# Altium footprint library pcblibLS.PcbLib: 49 footprints (part 3 of 4)
Each footprint in its own frame and in the unit in brackets; x right, y up, seen from the top. Pads: shape width x height; smd on the part's side, far side on the other; paste and mask are expansions set on the pad; w line width, h text height; cw(c..) or ccw(c..) is an arc to the next point about the centre after c.
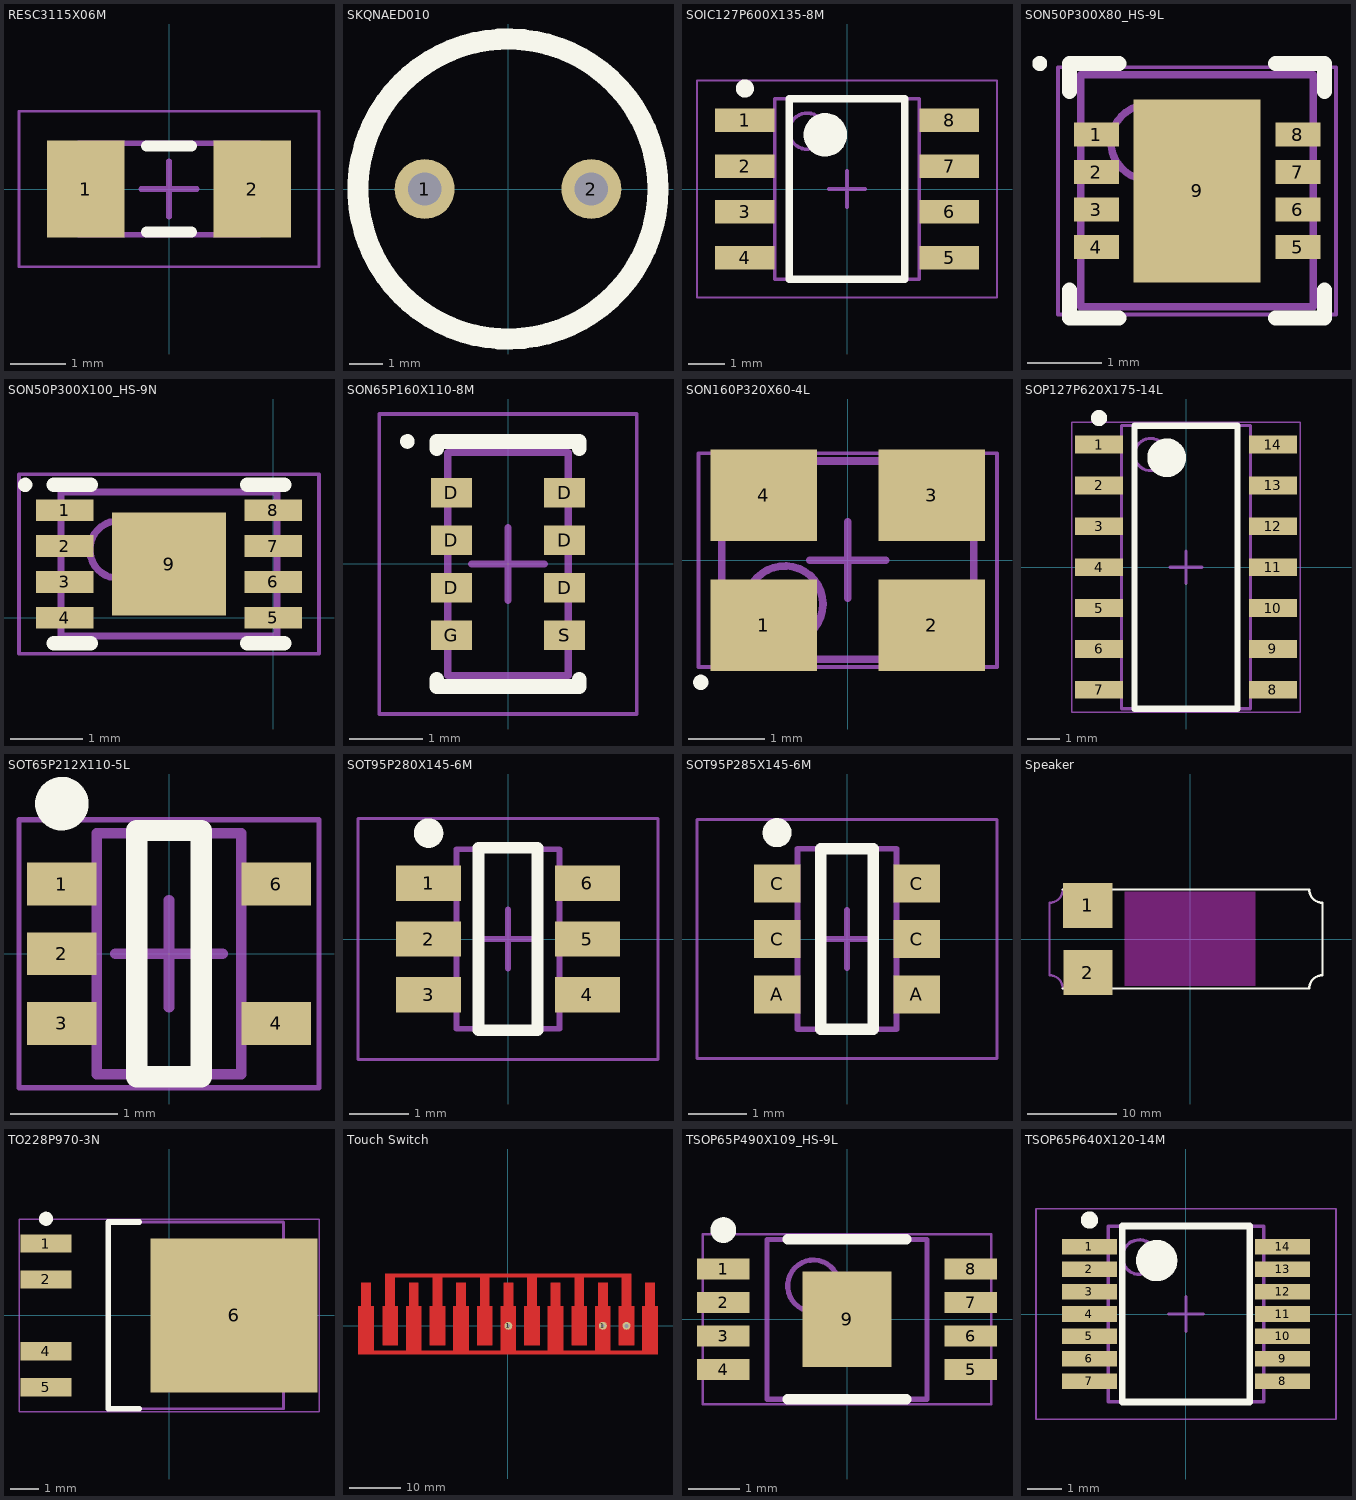
[diagram p2: the footprints below, top view; thin cyan lines are the x and y axes]

## RESC3115X06M [mm] "Chip Resistor, 2-Leads, Body 3.13x1.55mm, IPC Low Density"
height 0.6
pads (2):
  rect 1.4x1.75 smd: 1(-1.5,0) 2(1.5,0)
Top Overlay:
  lines w0.2: -0.4,-0.775 0.4,-0.775 ; -0.4,0.775 0.4,0.775
Mechanical 13:
  lines w0.1: -1.625,-0.825 -1.625,0.825 1.625,0.825 1.625,-0.825 -1.625,-0.825
Mechanical 15:
  lines w0.05: -2.7,-1.4 -2.7,1.4 2.7,1.4 2.7,-1.4 -2.7,-1.4
  lines w0.1: -0.5,0 0.5,0 ; 0,-0.5 0,0.5
3D body: height 0.6, standoff 0, extent -1.125,-0.825 1.125,0.825
3D body: height 0.6, standoff 0, extent -1.625,-0.825 -1.125,0.825
3D body: height 0.6, standoff 0, extent 1.125,-0.825 1.625,0.825

## SKQNAED010 [mm] "Tactile Switch"
height 3.4
pads (2):
  round 1.8 hole 1: 1(-2.5,0) 2(2.5,0)
Top Overlay:
  circle w0.635: c0,0 r4.5

## SOIC127P600X135-8M [mm] "SOIC, 8-Leads, Body 4.90x3.85mm, Pitch 1.27mm, IPC Low Density"
height 1.35
pads (8):
  rect 1.65x0.65 smd: 1(-2.825,1.905) 2(-2.825,0.635) 3(-2.825,-0.635) 4(-2.825,-1.905) 5(2.825,-1.905) 6(2.825,-0.635) 7(2.825,0.635) 8(2.825,1.905)
Top Overlay:
  circle w0.6: c-0.6,1.5 r0.3
  circle w0.25: c-2.825,2.78 r0.125
  lines w0.2: -1.6,-2.5 1.6,-2.5 1.6,2.5 -1.6,2.5 -1.6,-2.5
Mechanical 13:
  circle w0.1: c-1.1,1.6 r0.5
  lines w0.1: -2,-2.5 2,-2.5 2,2.5 -2,2.5 -2,-2.5
Mechanical 15:
  lines w0.05: -4.15,-3 4.15,-3 4.15,3 -4.15,3 -4.15,-3
  lines w0.1: -0.5,0 0.5,0 ; 0,-0.5 0,0.5
3D body: height 1.75, standoff 1.35, extent -2,-2.5 2,2.5

## SON50P300X80_HS-9L [mm] "ADM7172 - SON, 8-Leads, Body 3.00x3.00mm, Pitch 0.50mm, Thermal Pad 2.44x1.49mm, IPC High Density"
height 0.8
pads (9):
  rect 0.6x0.32 smd: 1(-16.14,9) 2(-16.14,8.5) 3(-16.14,8) 4(-16.14,7.5) 5(-13.45,7.5) 6(-13.45,8) 7(-13.45,8.5) 8(-13.45,9)
  rect 1.7x2.44 smd paste-0.745: 9(-14.795,8.25)
Top Overlay:
  circle w0.1: c-16.895,9.95 r0.05
  lines w0.2: -16.495,6.925 -16.495,6.55 -15.84,6.55 ; -16.495,9.575 -16.495,9.95 -15.84,9.95 ; -13.75,6.55 -13.095,6.55 -13.095,6.925 ; -13.75,9.95 -13.095,9.95 -13.095,9.575
Top Paste:
  rectangle: -14.745,7.05 -14.045,8.2
  rectangle: -14.745,8.3 -14.045,9.45
  rectangle: -15.545,7.05 -14.845,8.2
  rectangle: -15.545,8.3 -14.845,9.45
Mechanical 13:
  circle w0.1: c-15.445,8.9 r0.5
  lines w0.1: -16.345,6.7 -13.245,6.7 -13.245,9.8 -16.345,9.8 -16.345,6.7
Mechanical 15:
  lines w0.05: -16.65,6.6 -12.94,6.6 -12.94,9.9 -16.65,9.9 -16.65,6.6
  lines w0.1: -15.295,8.25 -14.295,8.25 ; -14.795,7.75 -14.795,8.75
3D body: height 0.8, standoff 0.2, extent -16.345,6.7 -13.245,9.8

## SON50P300X100_HS-9N [mm] "DAC - SON, 8-Leads, Body 2.00x3.00mm, Pitch 0.50mm, Thermal Pad 1.43x1.58mm, IPC Medium Density"
height 1
pads (9):
  rect 0.8x0.3 smd: 1(-2.9,1.5) 2(-2.9,1) 3(-2.9,0.5) 4(-2.9,0) 5(0,0) 6(0,0.5) 7(0,1) 8(0,1.5)
  rect 1.58x1.43 smd: 9(-1.45,0.75)
Top Overlay:
  circle w0.1: c-3.45,1.85 r0.05
  lines w0.2: -3.05,-0.35 -2.54,-0.35 ; -3.05,1.85 -2.54,1.85 ; -0.36,-0.35 0.15,-0.35 ; -0.36,1.85 0.15,1.85
Mechanical 13:
  circle w0.1: c-2.15,0.95 r0.4
  lines w0.1: -2.95,-0.25 0.05,-0.25 0.05,1.75 -2.95,1.75 -2.95,-0.25
Mechanical 15:
  lines w0.05: -3.535,-0.5 0.635,-0.5 0.635,2 -3.535,2 -3.535,-0.5
  lines w0.1: -1.95,0.75 -0.95,0.75 ; -1.45,0.25 -1.45,1.25
3D body: height 1, standoff 0, extent -2.95,-0.25 0.05,1.75

## SON65P160X110-8M [mm] "ChipFET - SON, 8-Leads, Body 3.05x1.65mm, Pitch 0.65mm, IPC Low Density"
height 1.1
pads (8):
  rect 0.56x0.4 smd: D(-0.775,-0.325) D(-0.775,0.325) D(-0.775,0.975) D(0.775,-0.325) D(0.775,0.325) D(0.775,0.975) G(-0.775,-0.975) S(0.775,-0.975)
Top Overlay:
  circle w0.1: c-1.375,1.675 r0.05
  lines w0.2: -0.975,-1.575 -0.975,-1.675 0.975,-1.675 0.975,-1.575 ; -0.975,1.575 -0.975,1.675 0.975,1.675 0.975,1.575
Mechanical 13:
  lines w0.1: -0.825,-1.525 -0.825,1.525 0.825,1.525 0.825,-1.525 -0.825,-1.525
Mechanical 15:
  lines w0.05: -1.76,-2.05 -1.76,2.05 1.76,2.05 1.76,-2.05 -1.76,-2.05
  lines w0.1: -0.5,0 0.5,0 ; 0,-0.5 0,0.5
3D body: height 1.1, standoff 0, extent -0.825,-1.525 0.825,1.525

## SON160P320X60-4L [mm] "NX3225 Crystal"
height 0.6
pads (4):
  rect 1.4x1.2 smd mask+0: 1(-1.1,-0.85) 2(1.1,-0.85) 3(1.1,0.85) 4(-1.1,0.85)
Top Overlay:
  circle w0.1: c-1.925,-1.6 r0.05
Mechanical 13:
  circle w0.1: c-0.825,-0.575 r0.5
  lines w0.1: -1.65,-1.3 -1.65,1.3 1.65,1.3 1.65,-1.3 -1.65,-1.3
Mechanical 15:
  lines w0.05: -1.955,-1.4 -1.955,1.4 1.955,1.4 1.955,-1.4 -1.955,-1.4
  lines w0.1: -0.5,0 0.5,0 ; 0,-0.5 0,0.5
3D body: height 0.6, standoff 0, extent -1.65,-1.3 1.65,1.3

## SOP127P620X175-14L [mm] "Buffer - SOP, 14-Leads, Body 8.65x3.90mm, Pitch 1.27mm, IPC High Density"
height 1.75
pads (14):
  rect 1.5x0.55 smd: 1(-2.7,3.81) 2(-2.7,2.54) 3(-2.7,1.27) 4(-2.7,0) 5(-2.7,-1.27) 6(-2.7,-2.54) 7(-2.7,-3.81) 8(2.7,-3.81) 9(2.7,-2.54) 10(2.7,-1.27) 11(2.7,0) 12(2.7,1.27) 13(2.7,2.54) 14(2.7,3.81)
Top Overlay:
  circle w0.25: c-2.7,4.635 r0.125
  circle w0.6: c-0.6,3.4 r0.3
  lines w0.2: -1.6,-4.4 -1.6,4.4 1.6,4.4 1.6,-4.4 -1.6,-4.4
Mechanical 13:
  circle w0.1: c-1.1,3.5 r0.5
  lines w0.1: -2,-4.4 -2,4.4 2,4.4 2,-4.4 -2,-4.4
Mechanical 15:
  lines w0.05: -3.55,-4.5 -3.55,4.5 3.55,4.5 3.55,-4.5 -3.55,-4.5
  lines w0.1: -0.5,0 0.5,0 ; 0,-0.5 0,0.5
3D body: height 1.75, standoff 0.1, extent -2,-4.4 2,4.4

## SOT65P212X110-5L [mm] "1SPST Switch SOT23, 5-Leads, Body 2.05x2.13mm, Pitch 0.65mm, IPC High Density"
height 1.1
pads (5):
  rect 0.65x0.4 smd: 1(-1,0.65) 2(-1,0) 3(-1,-0.65) 4(1,-0.65) 6(1,0.65)
Top Overlay:
  circle w0.25: c-1,1.4 r0.125
  lines w0.2: -0.3,-1.15 0.3,-1.15 0.3,1.15 -0.3,1.15 -0.3,-1.15
Mechanical 13:
  lines w0.1: -0.675,-1.125 -0.675,1.125 0.675,1.125 0.675,-1.125 -0.675,-1.125
Mechanical 15:
  lines w0.05: -1.4,-1.25 -1.4,1.25 1.4,1.25 1.4,-1.25 -1.4,-1.25
  lines w0.1: -0.5,0 0.5,0 ; 0,-0.5 0,0.5
3D body: height 1.1, standoff 0, extent -0.675,-1.125 0.675,1.125

## SOT95P280X145-6M [mm] "SOT23, 6-Leads, Body 2.90x2.80mm, Pitch 0.95mm, IPC Low Density"
height 1.45
pads (6):
  rect 1.1x0.6 smd: 1(-1.35,0.95) 2(-1.35,0) 3(-1.35,-0.95) 4(1.35,-0.95) 5(1.35,0) 6(1.35,0.95)
Top Overlay:
  circle w0.25: c-1.35,1.8 r0.125
  lines w0.2: -0.5,-1.55 -0.5,1.55 0.5,1.55 0.5,-1.55 -0.5,-1.55
Mechanical 13:
  lines w0.1: -0.875,-1.525 0.875,-1.525 0.875,1.525 -0.875,1.525 -0.875,-1.525
Mechanical 15:
  lines w0.05: -2.55,-2.05 2.55,-2.05 2.55,2.05 -2.55,2.05 -2.55,-2.05
  lines w0.1: -0.5,0 0.5,0 ; 0,-0.5 0,0.5
3D body: height 1.45, standoff 0, extent -0.875,-1.525 0.875,1.525

## SOT95P285X145-6M [mm] "ZHCS2000 - SOT23, 6-Leads, Body 3.00x2.85mm, Pitch 0.95mm, IPC Low Density"
height 1.45
pads (6):
  rect 0.8x0.65 smd: A(-1.2,-0.95) A(1.2,-0.95) C(-1.2,0) C(-1.2,0.95) C(1.2,0) C(1.2,0.95)
Top Overlay:
  circle w0.25: c-1.2,1.825 r0.125
  lines w0.2: -0.45,-1.55 0.45,-1.55 0.45,1.55 -0.45,1.55 -0.45,-1.55
Mechanical 13:
  lines w0.1: -0.85,-1.55 -0.85,1.55 0.85,1.55 0.85,-1.55 -0.85,-1.55
Mechanical 15:
  lines w0.05: -2.575,-2.05 -2.575,2.05 2.575,2.05 2.575,-2.05 -2.575,-2.05
  lines w0.1: -0.5,0 0.5,0 ; 0,-0.5 0,0.5
3D body: height 1.45, standoff 0.02, extent -0.85,-1.55 0.85,1.55

## Speaker [mil] "The speaker on old dev board"
height 196.85
pads (2):
  rect 216.54x200 smd: 1(-453,148) 2(-452,-148)
Top Overlay:
  lines w10: -562.99,-218.5 523.62,-218.5 cw(c582.68,-218.5) 582.68,-159.45 582.68,159.45 cw(c582.68,218.5) 523.62,218.5 -562.99,218.5
Keep-Out Layer:
  board cut-out: -290,-207 286,-207 286,209 -290,209
  lines w15.75: -282.48,-199.8 278.54,-199.8 278.54,201.2 -282.48,201.2 -282.48,-199.8
Mechanical 15:
  lines w10: -562.99,-218.5 ccw(c-622.05,-218.5) -622.05,-159.45 -622.05,159.45 ccw(c-622.05,218.5) -562.99,218.5

## TO228P970-3N [mm] "LD39300-ADJ DDPAK"
height 2.4
pads (5):
  rect 1.8x0.65 smd: 1(-4.35,2.54) 2(-4.35,1.27) 4(-4.35,-1.27) 5(-4.35,-2.54)
  rect 5.9x5.45 smd: 6(2.3,0)
Top Overlay:
  circle w0.25: c-4.35,3.415 r0.125
  lines w0.2: -1.05,-3.3 -2.15,-3.3 -2.15,3.3 -1.05,3.3
Mechanical 13:
  lines w0.1: -2.15,-3.3 -2.15,3.3 4.05,3.3 4.05,-3.3 -2.15,-3.3
Mechanical 15:
  lines w0.05: -5.3,-3.4 -5.3,3.4 5.3,3.4 5.3,-3.4 -5.3,-3.4
  lines w0.1: -0.5,0 0.5,0 ; 0,-0.5 0,0.5
3D body: height 2.4, standoff 0.03, extent -2.15,-3.3 4.05,3.3

## Touch Switch [mil] "Capacitive Touch Switch"
pads (3):
  round 60 hole 28 paste+0: 1(5,0)
  round 60 hole 28 mask+0: 1(725,0)
  round 60 hole 30: 28(905,0)
Top Layer:
  rectangle: 1025,-187.5 1145,-150
  rectangle: 665,-187.5 785,-150
  rectangle: 305,-187.5 425,-150
  rectangle: -55,-187.5 65,-150
  rectangle: -415,-187.5 -295,-150
  rectangle: -775,-187.5 -655,-150
  rectangle: -1140,-217.5 1145,-187.5
  rectangle: -1140,-187.5 -1020,-150
  rectangle: 867.5,330 942.5,375
  rectangle: 507.5,330 582.5,375
  rectangle: 147.5,330 222.5,375
  rectangle: -212.5,330 -137.5,375
  rectangle: -572.5,330 -497.5,375
  rectangle: -932.5,367.5 942.5,397.5
  rectangle: -932.5,330 -857.5,367.5
  rectangle: 1047.5,150 1122.5,330
  rectangle: 867.5,150 942.5,330
  rectangle: 687.5,150 762.5,330
  rectangle: 507.5,150 582.5,330
  rectangle: 327.5,150 402.5,330
  rectangle: 147.5,150 222.5,330
  rectangle: -32.5,150 42.5,330
  rectangle: -212.5,150 -137.5,330
  rectangle: -392.5,150 -317.5,330
  rectangle: -572.5,150 -497.5,330
  rectangle: -752.5,150 -677.5,330
  rectangle: -932.5,150 -857.5,330
  rectangle: -1117.5,150 -1042.5,330
  rectangle: 305,-150 425,150
  rectangle: 845,-150 965,150
  rectangle: 1025,-150 1145,150
  rectangle: 665,-150 785,150
  rectangle: 485,-150 605,150
  rectangle: -415,-150 -295,150
  rectangle: -235,-150 -115,150
  rectangle: 125,-150 245,150
  rectangle: -55,-150 65,150
  rectangle: -775,-150 -655,150
  rectangle: -595,-150 -475,150
  rectangle: -955,-150 -835,150
  rectangle: -1140,-150 -1020,150

## TSOP65P490X109_HS-9L [mm] "LME49726 - TSOP, 8-Leads, Body 3.00x3.00mm, Pitch 0.65mm, Thermal Pad 1.85x1.73mm, IPC High Density"
height 1.09
pads (9):
  rect 1.02x0.41 smd: 1(-2.4,0.975) 2(-2.4,0.325) 3(-2.4,-0.325) 4(-2.4,-0.975) 5(2.4,-0.975) 6(2.4,-0.325) 7(2.4,0.325) 8(2.4,0.975)
  rect 1.73x1.85 smd: 9(0,0)
Top Overlay:
  circle w0.25: c-2.4,1.73 r0.125
  lines w0.2: -1.15,-1.55 1.15,-1.55 ; -1.15,1.55 1.15,1.55
Mechanical 13:
  circle w0.1: c-0.65,0.65 r0.5
  lines w0.1: -1.55,-1.55 1.55,-1.55 1.55,1.55 -1.55,1.55 -1.55,-1.55
Mechanical 15:
  lines w0.05: -2.8,-1.65 2.8,-1.65 2.8,1.65 -2.8,1.65 -2.8,-1.65
  lines w0.1: -0.5,0 0.5,0 ; 0,-0.5 0,0.5
3D body: height 1.09, standoff 0.05, extent -1.55,-1.55 1.55,1.55

## TSOP65P640X120-14M [mm] "TSOP, 14-Leads, Body 5.00x4.40mm, Pitch 0.65mm, IPC Low Density"
height 1.2
pads (14):
  rect 1.6x0.45 smd: 1(-2.8,1.95) 2(-2.8,1.3) 3(-2.8,0.65) 4(-2.8,0) 5(-2.8,-0.65) 6(-2.8,-1.3) 7(-2.8,-1.95) 8(2.8,-1.95) 9(2.8,-1.3) 10(2.8,-0.65) 11(2.8,0) 12(2.8,0.65) 13(2.8,1.3) 14(2.8,1.95)
Top Overlay:
  circle w0.25: c-2.8,2.725 r0.125
  circle w0.6: c-0.85,1.55 r0.3
  lines w0.2: -1.85,-2.55 -1.85,2.55 1.85,2.55 1.85,-2.55 -1.85,-2.55
Mechanical 13:
  circle w0.1: c-1.35,1.65 r0.5
  lines w0.1: -2.25,-2.55 -2.25,2.55 2.25,2.55 2.25,-2.55 -2.25,-2.55
Mechanical 15:
  lines w0.05: -4.35,-3.05 -4.35,3.05 4.35,3.05 4.35,-3.05 -4.35,-3.05
  lines w0.1: -0.5,0 0.5,0 ; 0,-0.5 0,0.5
3D body: height 1.2, standoff 0.05, extent -2.25,-2.55 2.25,2.55